# EAGLE library part TS3A4741DGKR (library SamacSys_Parts)
Texas Instruments TS3A4741DGKR, Analogue Switch Dual SPST, 1.65 3.6 V, 8-Pin VSSOP Source: Datasheet <http://www.ti.com/lit/gpn/ts3a4741>
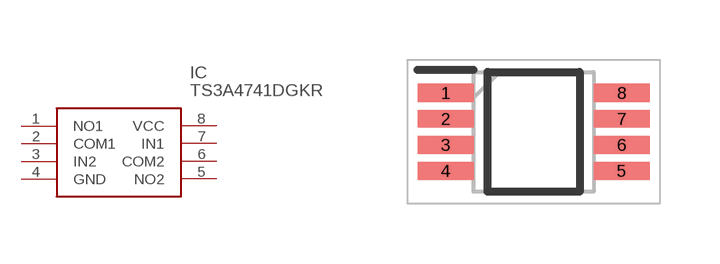
[diagram p35: symbol with the pads of SOP65P490X110-8N; footprint SOP65P490X110-8N]

Designator prefix IC

## TS3A4741DGKR (DESCRIPTION: Texas Instruments TS3A4741DGKR, Analogue Switch Dual SPST, 1.65 3.6 V, 8-Pin VSSOP; HEIGHT: 1.1mm; MANUFACTURER_NAME: Texas Instruments; MANUFACTURER_PART_NUMBER: TS3A4741DGKR; MOUSER_PART_NUMBER: 595-TS3A4741DGKR; MOUSER_PRICE-STOCK: https://www.mouser.co.uk/ProductDetail/Texas-Instruments/TS3A4741DGKR?qs=7kv20MEVUlir1V4jQaOhXg%3D%3D)  [SOP65P490X110-8N]
1  NO1
2  COM1
3  IN2
4  GND
5  NO2
6  COM2
7  IN1
8  VCC

## Footprint SOP65P490X110-8N (pad centres in mm)
DGK (S-PDSO-G8)
smd 1.4 x 0.45: 1 -2.2,0.975; 2 -2.2,0.325; 3 -2.2,-0.325; 4 -2.2,-0.975; 5 2.2,-0.975; 6 2.2,-0.325; 7 2.2,0.325; 8 2.2,0.975